# Altium schematic symbol library Resistor_0603.SchLib: 233 symbols (part 4 of 4)
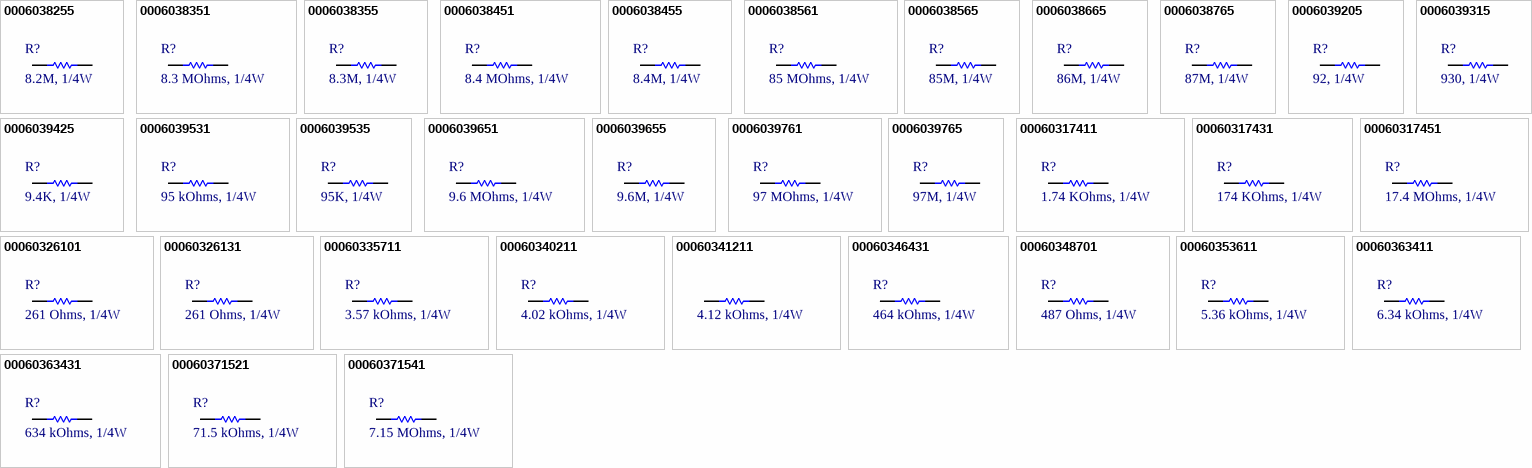
[diagram p8: symbols 0006038255 to 00060371541]

## 0006039531
designator R?, comment 95 kOhms, 1/4W
RES, 95 kOhms, size 0603, 1%; Resistance tolerance: +/-1%; Resistance: 95 k; Supply 1 Name: Mouser; Supply 2 Name: Digi-Key; Size: 0603; Mounting Technology: SMT; Rated Power: 1/4 W; ComponentLink1Description: Datasheet link; ComponentLink1URL: *; Supply 1 SN: *; Supply 1 URL: *; Supply 2 SN: *; Supply 2 URL: *; Supply 3 Name: *; Supply 3 SN: *
footprint resistor_0603
pins: 1, 2

## 0006039535
designator R?, comment 95K, 1/4W
RES, 95K Ohm, size 0603, 5%; Resistance tolerance: +/-5%; Size: 0603; Mounting Technology: SMT; Rated Power: 1/4 W; Datasheet: *; Resistance: 95K; ComponentLink1Description: Datasheet link; ComponentLink1URL: *; Supply 1 Name: *; Supply 1 SN: *; Supply 1 URL: *; Supply 2 Name: *; Supply 2 SN: *; Supply 2 URL: *; Supply 3 Name: *; Supply 3 SN: *; Supply 3 URL: *; Manufacture  Name: *; Manufacture  SN: *
footprint resistor_0603
pins: 1, 2

## 0006039651
designator R?, comment 9.6 MOhms, 1/4W
RES, 9.6 MOhms, size 0603, 1%; Resistance tolerance: +/-1%; Resistance: 9.6 M; Supply 1 Name: Mouser; Supply 2 Name: Digi-Key; Size: 0603; Mounting Technology: SMT; Rated Power: 1/4 W; ComponentLink1Description: Datasheet link; ComponentLink1URL: *; Supply 1 SN: *; Supply 1 URL: *; Supply 2 SN: *; Supply 2 URL: *; Supply 3 Name: *; Supply 3 SN: *
footprint resistor_0603
pins: 1, 2

## 0006039655
designator R?, comment 9.6M, 1/4W
RES, 9.6M Ohm, size 0603, 5%; Resistance tolerance: +/-5%; Size: 0603; Mounting Technology: SMT; Rated Power: 1/4 W; Datasheet: *; Resistance: 9.6M; ComponentLink1Description: Datasheet link; ComponentLink1URL: *; Supply 1 Name: *; Supply 1 SN: *; Supply 1 URL: *; Supply 2 Name: *; Supply 2 SN: *; Supply 2 URL: *; Supply 3 Name: *; Supply 3 SN: *; Supply 3 URL: *; Manufacture  Name: *; Manufacture  SN: *
footprint resistor_0603
pins: 1, 2

## 0006039761
designator R?, comment 97 MOhms, 1/4W
RES, 97 MOhms, size 0603, 1%; Resistance tolerance: +/-1%; Resistance: 97 M; Supply 1 Name: Mouser; Supply 2 Name: Digi-Key; Size: 0603; Mounting Technology: SMT; Rated Power: 1/4 W; ComponentLink1Description: Datasheet link; ComponentLink1URL: *; Supply 1 SN: *; Supply 1 URL: *; Supply 2 SN: *; Supply 2 URL: *; Supply 3 Name: *; Supply 3 SN: *
footprint resistor_0603
pins: 1, 2

## 0006039765
designator R?, comment 97M, 1/4W
RES, 97M Ohm, size 0603, 5%; Resistance tolerance: +/-5%; Size: 0603; Mounting Technology: SMT; Rated Power: 1/4 W; Datasheet: *; Resistance: 97M; ComponentLink1Description: Datasheet link; ComponentLink1URL: *; Supply 1 Name: *; Supply 1 SN: *; Supply 1 URL: *; Supply 2 Name: *; Supply 2 SN: *; Supply 2 URL: *; Supply 3 Name: *; Supply 3 SN: *; Supply 3 URL: *; Manufacture  Name: *; Manufacture  SN: *
footprint resistor_0603
pins: 1, 2

## 00060317411
designator R?, comment 1.74 KOhms, 1/4W
RES, 1.74 kOhms, size 0603, 1%; Resistance tolerance: +/-1%; Resistance: 1.74 k; Supply 1 Name: Mouser; Supply 1 SN: 652-CR0603FX-1741ELF; Supply 2 Name: Digi-Key; Supply 2 SN: 311-1.74KHRTR-ND; Size: 0603; Mounting Technology: SMT; Rated Power: 1/4 W; ComponentLink1Description: Datasheet link; ComponentLink1URL: *; Supply 1 URL: https://www.mouser.vn/ProductDetail/Bourns/CR0603-FX-1741ELF?qs=zx2075yZkZJRxafDX05PxQ%3D%3D; Supply 2 URL: https://www.digikey.com/en/products/detail/yageo/RC0603FR-071K74L/726872; Supply 3 Name: *; Supply 3 SN: *
footprint resistor_0603
pins: 1, 2

## 00060317431
designator R?, comment 174 KOhms, 1/4W
RES, 174 kOhms, size 0603, 1%; Resistance tolerance: +/-1%; Resistance: 174 k; Supply 1 Name: Mouser; Supply 1 SN: 652-CR0603FX-1743ELF; Supply 2 Name: Digi-Key; Supply 2 SN: 311-174KHRTR-ND; Size: 0603; Mounting Technology: SMT; Rated Power: 1/4 W; ComponentLink1Description: Datasheet link; ComponentLink1URL: *; Supply 1 URL: https://www.mouser.vn/ProductDetail/Bourns/CR0603-FX-1743ELF?qs=zx2075yZkZJGZPfH16YNVA%3D%3D; Supply 2 URL: https://www.digikey.com/en/products/detail/yageo/RC0603FR-07174KL/726985; Supply 3 Name: *; Supply 3 SN: *
footprint resistor_0603
pins: 1, 2

## 00060317451
designator R?, comment 17.4 MOhms, 1/4W
RES, 17.4 MOhms, size 0603, 1%; Resistance tolerance: +/-1%; Resistance: 174 M; Supply 1 Name: Mouser; Supply 1 SN: 303-0603WAF1745T5E; Supply 2 Name: Digi-Key; Size: 0603; Mounting Technology: SMT; Rated Power: 1/4 W; ComponentLink1Description: Datasheet link; ComponentLink1URL: *; Supply 1 URL: https://www.mouser.vn/ProductDetail/Royalohm/0603WAF1745T5E?qs=e8oIoAS2J1TZruGg9o9nsw%3D%3D; Supply 2 SN: *; Supply 2 URL: *; Supply 3 Name: *; Supply 3 SN: *
footprint resistor_0603
pins: 1, 2

## 00060326101
designator R?, comment 261 Ohms, 1/4W
RES, 261 Ohms, size 0603, 1%; Resistance tolerance: +/-1%; Resistance: 261; Supply 1 Name: Mouser; Supply 1 SN: 652-CR0603FX-2610ELF; Supply 2 Name: Digi-Key; Supply 2 SN: 311-261HRTR-ND; Size: 0603; Mounting Technology: SMT; Rated Power: 1/4 W; ComponentLink1Description: Datasheet link; ComponentLink1URL: *; Supply 1 URL: https://www.mouser.vn/ProductDetail/Bourns/CR0603-FX-2610ELF?qs=I4suiNu8FYAPozqcSssc3g%3D%3D; Supply 2 URL: https://www.digikey.com/en/products/detail/yageo/RC0603FR-07261RL/727095; Supply 3 Name: *; Supply 3 SN: *
footprint resistor_0603
pins: 1, 2

## 00060326131
designator R?, comment 261 Ohms, 1/4W
RES, 261 kOhms, size 0603, 1%; Resistance tolerance: +/-1%; Resistance: 261 k; Supply 1 Name: Mouser; Supply 1 SN: 71-CRCW0603-261K-E3; Supply 2 Name: Digi-Key; Supply 2 SN: 311-261KHRTR-ND; Size: 0603; Mounting Technology: SMT; Rated Power: 1/4 W; ComponentLink1Description: Datasheet link; ComponentLink1URL: *; Supply 1 URL: https://www.mouser.vn/ProductDetail/Vishay-Dale/CRCW0603261KFKEA?qs=ZY%2FA15UmqnC8j%252BzPQatghA%3D%3D; Supply 2 URL: https://www.digikey.com/en/products/detail/yageo/RC0603FR-07261KL/727096; Supply 3 Name: *; Supply 3 SN: *
footprint resistor_0603
pins: 1, 2

## 00060335711
designator R?, comment 3.57 kOhms, 1/4W
RES, 3.57 kOhms, size 0603, 1%; Resistance tolerance: +/-1%; Resistance: 3.57 k; Supply 1 Name: Mouser; Supply 1 SN: 755-SDR03EZPF3571; Supply 2 Name: Digi-Key; Supply 2 SN: 311-3.57KHRTR-ND; Size: 0603; Mounting Technology: SMT; Rated Power: 1/4 W; ComponentLink1Description: Datasheet link; ComponentLink1URL: *; Supply 1 URL: https://www.mouser.vn/ProductDetail/ROHM-Semiconductor/SDR03EZPF3571?qs=MyNHzdoqoQLQWlSf8qqG2w%3D%3D; Supply 2 URL: https://www.digikey.com/en/products/detail/yageo/RC0603FR-073K57L/727131; Supply 3 Name: *; Supply 3 SN: *
footprint resistor_0603
pins: 1, 2

## 00060340211
designator R?, comment 4.02 kOhms, 1/4W
RES, 4.02 kOhms, size 0603, 1%; Resistance tolerance: +/-1%; Resistance: 4.02 k; Supply 1 Name: Mouser; Supply 1 SN: 71-CRCW0603-4.02K-E3; Supply 2 Name: Digi-Key; Supply 2 SN: 311-4.02KHRTR-ND; Size: 0603; Mounting Technology: SMT; Rated Power: 1/4 W; ComponentLink1Description: Datasheet link; ComponentLink1URL: *; Supply 1 URL: https://www.mouser.vn/ProductDetail/Vishay-Dale/CRCW06034K02FKEA?qs=ePVmox3SMzYmoL%252BtsFsAuw%3D%3D; Supply 2 URL: https://www.digikey.com/en/products/detail/yageo/RC0603FR-074K02L/727203; Supply 3 Name: *; Supply 3 SN: *
footprint resistor_0603
pins: 1, 2

## 00060341211
designator ?, comment 4.12 kOhms, 1/4W
RES, 4.12 kOhms, size 0603, 1%; Resistance tolerance: +/-1%; Resistance: 4.12 k; Supply 1 Name: Mouser; Supply 1 SN: 71-CRCW0603-4.12K-E3; Supply 2 Name: Digi-Key; Supply 2 SN: 311-4.02KHRTR-ND; Size: 0603; Mounting Technology: SMT; Rated Power: 1/4 W; ComponentLink1Description: Datasheet link; ComponentLink1URL: *; Supply 1 URL: https://www.mouser.vn/ProductDetail/Vishay-Dale/CRCW06034K12FKEA?qs=7VR27ARAOdnkRSfILZFcCQ%3D%3D; Supply 2 URL: https://www.digikey.com/en/products/detail/yageo/RC0603FR-074K02L/727203; Supply 3 Name: *; Supply 3 SN: *
footprint resistor_0603
pins: 1, 2

## 00060346431
designator R?, comment 464 kOhms, 1/4W
RES, 464 kOhms, size 0603, 1%; Resistance tolerance: +/-1%; Resistance: 464 k; Supply 1 Name: Mouser; Supply 1 SN: 667-ERJ-PA3F4643V; Supply 2 Name: Digi-Key; Supply 2 SN: ERJ-PA3F4643V-ND - Tape & Reel (TR); Size: 0603; Mounting Technology: SMT; Rated Power: 1/4 W; Datasheet: https://www.mouser.vn/datasheet/2/315/AOA0000C331-1141874.pdf; ComponentLink1Description: Datasheet link; ComponentLink1URL: *; Supply 1 URL: https://www.mouser.vn/ProductDetail/Panasonic/ERJ-PA3F4643V?qs=BzJM0faLVqXNplNA4jO3ww%3D%3D; Supply 2 URL: https://www.digikey.com/en/products/detail/panasonic-electronic-components/ERJ-PA3F4643V/5038117?s=N4IgTCBcDaIGxwOwFoCiAlAUsgCgQQGYAxAFjhIIDUQBdAXyA; Supply 3 Name: *; Supply 3 SN: *
footprint resistor_0603
pins: 1, 2

## 00060348701
designator R?, comment 487 Ohms, 1/4W
RES, 487 Ohms, size 0603, 1%; Resistance tolerance: +/-1%; Resistance: 487; Supply 1 Name: Mouser; Supply 1 SN: 667-ERJ-PA3F4870V; Supply 2 Name: Digi-Key; Supply 2 SN: ERJ-PA3F4870V-ND - Tape & Reel (TR); Size: 0603; Mounting Technology: SMT; Rated Power: 1/4 W; Datasheet: https://www.mouser.vn/datasheet/2/315/AOA0000C331-1141874.pdf; ComponentLink1Description: Datasheet link; ComponentLink1URL: *; Supply 1 URL: https://www.mouser.vn/ProductDetail/Panasonic/ERJ-PA3F4870V?qs=BzJM0faLVqXoF%252BFTbHdjOQ%3D%3D; Supply 2 URL: https://www.digikey.com/en/products/detail/panasonic-electronic-components/ERJ-PA3F4870V/5037849?s=N4IgTCBcDaIGxwOwFoCiAlAUsgCgQQGYAxAFgA5EAGANRAF0BfIA; Supply 3 Name: *; Supply 3 SN: *
footprint resistor_0603
pins: 1, 2

## 00060353611
designator R?, comment 5.36 kOhms, 1/4W
RES, 5.36 kOhms, size 0603, 1%; Resistance tolerance: +/-1%; Resistance: 5.36 k; Supply 1 Name: Mouser; Supply 1 SN: 667-ERJ-PA3F5361V; Supply 2 Name: Digi-Key; Supply 2 SN: ERJ-PA3F5361V-ND - Tape & Reel (TR); Size: 0603; Mounting Technology: SMT; Rated Power: 1/4 W; Datasheet: https://www.mouser.vn/datasheet/2/315/AOA0000C331-1141874.pdf; ComponentLink1Description: Datasheet link; ComponentLink1URL: *; Supply 1 URL: https://www.mouser.vn/ProductDetail/Panasonic/ERJ-PA3F5361V?qs=BzJM0faLVqV9HycZG6PMVQ%3D%3D; Supply 2 URL: https://www.digikey.com/en/products/detail/panasonic-electronic-components/ERJ-PA3F5361V/5037943?s=N4IgTCBcDaIGxwOwFoCiAlAUsgCgQQGYAxAVgLgEYA1EAXQF8g; Supply 3 Name: *; Supply 3 SN: *
footprint resistor_0603
pins: 1, 2

## 00060363411
designator R?, comment 6.34 kOhms, 1/4W
RES, 6.34 kOhms, size 0603, 1%; Resistance tolerance: +/-1%; Resistance: 6.34 k; Supply 1 Name: Mouser; Supply 1 SN: 652-CR0805FX-6341ELF; Supply 2 Name: Digi-Key; Supply 2 SN: 311-6.34KHRTR-ND; Size: 0603; Mounting Technology: SMT; Rated Power: 1/4 W; ComponentLink1Description: Datasheet link; ComponentLink1URL: *; Supply 1 URL: https://www.mouser.vn/ProductDetail/Bourns/CR0805-FX-6341ELF?qs=LA9FZBosJlAK7SMOW8nAHg%3D%3D; Supply 2 URL: https://www.digikey.com/en/products/detail/yageo/RC0603FR-076K34L/727320; Supply 3 Name: *; Supply 3 SN: *
footprint resistor_0603
pins: 1, 2

## 00060363431
designator R?, comment 634 kOhms, 1/4W
RES, 634 kOhms, size 0603, 1%; Resistance tolerance: +/-1%; Resistance: 634 k; Supply 1 Name: Mouser; Supply 1 SN: 652-CR0805FX-6343ELF; Supply 2 Name: Digi-Key; Supply 2 SN: 311-634KHRTR-ND; Size: 0603; Mounting Technology: SMT; Rated Power: 1/4 W; ComponentLink1Description: Datasheet link; ComponentLink1URL: *; Supply 1 URL: https://www.mouser.vn/ProductDetail/Bourns/CR0805-FX-6343ELF?qs=LA9FZBosJlBAKVRC2OUkqw%3D%3D; Supply 2 URL: https://www.digikey.com/en/products/detail/yageo/RC0603FR-07634KL/727342; Supply 3 Name: *; Supply 3 SN: *
footprint resistor_0603
pins: 1, 2

## 00060371521
designator R?, comment 71.5 kOhms, 1/4W
RES, 71.5 kOhms, size 0603, 1%; Resistance tolerance: +/-1%; Resistance: 71.5 k; Supply 1 Name: Mouser; Supply 2 Name: Digi-Key; Supply 2 SN: 311-71.5KHRTR-ND; Size: 0603; Mounting Technology: SMT; Rated Power: 1/4 W; ComponentLink1Description: Datasheet link; ComponentLink1URL: *; Supply 1 SN: *; Supply 1 URL: *; Supply 2 URL: https://www.digikey.com/en/products/detail/yageo/RC0603FR-0771K5L/727370; Supply 3 Name: *; Supply 3 SN: *
footprint resistor_0603
pins: 1, 2

## 00060371541
designator R?, comment 7.15 MOhms, 1/4W
RES, 7.15 MOhms, size 0603, 1%; Resistance tolerance: +/-1%; Resistance: 7.15 M; Supply 1 Name: Mouser; Supply 1 SN: 603-RC0201FR-077M15L; Supply 2 Name: Digi-Key; Supply 2 SN: 541-7.15MHTR-ND; Size: 0603; Mounting Technology: SMT; Rated Power: 1/4 W; ComponentLink1Description: Datasheet link; ComponentLink1URL: *; Supply 1 URL: https://www.mouser.vn/ProductDetail/YAGEO/RC0201FR-077M15L?qs=lc2O%252BfHJPVagYgggyyCiyg%3D%3D; Supply 2 URL: https://www.digikey.com/en/products/detail/vishay-dale/CRCW06037M15FKEA/1175108; Supply 3 Name: *; Supply 3 SN: *
footprint resistor_0603
pins: 1, 2